# Altium schematic symbol library SCH - LDO - LM317L.SCHLIB: 1 symbol
Pins are listed as number, name and electrical type; pins without a type are passive.

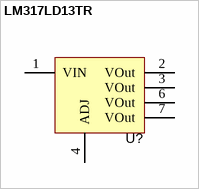
[diagram p0: symbol LM317LD13TR]

## LM317LD13TR
designator U?
pins: 1 VIN (power), 2 VOut (power), 3 VOut (power), 4 ADJ (power), 6 VOut (power), 7 VOut (power)